# Altium footprint library 4363X10458XX.PcbLib: 1 footprints
Each footprint in its own frame and in the unit in brackets; x right, y up, seen from the top. Pads: shape width x height; smd on the part's side, far side on the other; paste and mask are expansions set on the pad; w line width, h text height; cw(c..) or ccw(c..) is an arc to the next point about the centre after c.
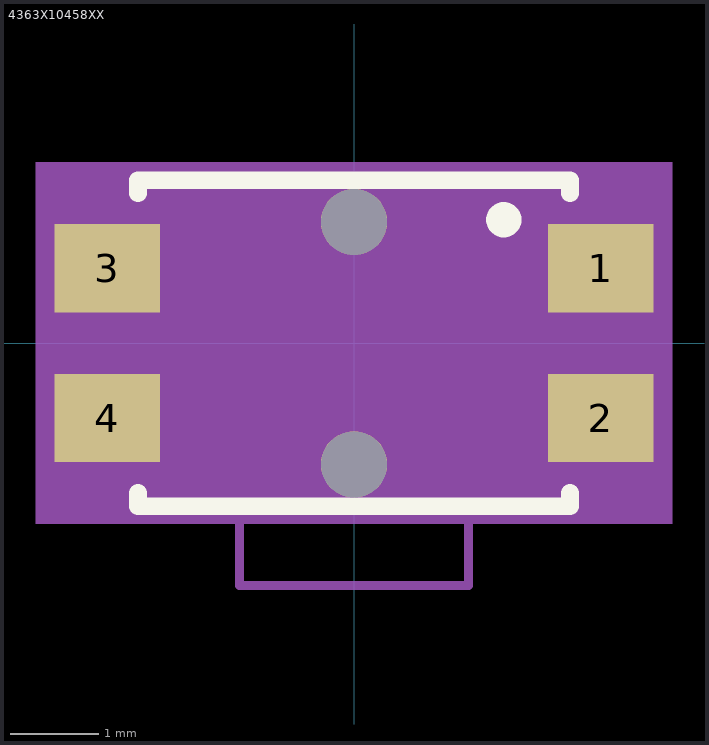
[diagram p0: the footprint, top view; thin cyan lines are the x and y axes]

## 4363X10458XX [mm]
pads (6):
  rect 1.2x1 smd: 1(2.8,0.85) 2(2.8,-0.85) 3(-2.8,0.85) 4(-2.8,-0.85)
  round 0.75 hole 0.75 unplated: ""(0,-1.375) ""(0,1.375)
Top Overlay:
  circle w0.2: c1.7,1.4 r0.1
  lines w0.2: -2.45,-1.7 -2.45,-1.85 2.45,-1.85 2.45,-1.7 ; -2.45,1.7 -2.45,1.85 2.45,1.85 2.45,1.7
Assembly Top:
  lines w0.1: -1.3,-1.75 -1.3,-2.75 1.3,-2.75 1.3,-1.75 ; -2.35,-1.75 -2.35,1.75 2.35,1.75 2.35,-1.75 -2.35,-1.75
  text "PCB EDGE" at -1,-1.4 h0.3
  text "SWITCH EDGE" at -1.2,-2.6 h0.25
Courtyard Top:
  region: 3.61,-2.05 -3.61,-2.05 -3.61,2.05 3.61,2.05